# EAGLE library part LT1013 (library Eagle3D-IC_OpAmp)
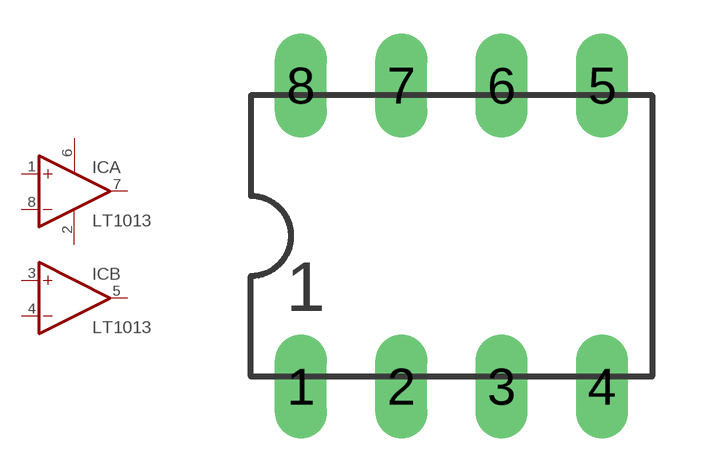
[diagram p2: symbol with the pads of DIL08; footprint DIL08]

Designator prefix IC; gates A=OP-AMP B=OP-AMP P=IC_POWER_PINS

## LT1013-P  [DIL08]
1  A:+IN  in
2  P:V-  pwr
3  B:+IN  in
4  B:-IN  in
5  B:OUT  out
6  P:V+  pwr
7  A:OUT  out
8  A:-IN  in

## LT1013-N  [DIL08]
1  A:OUT  out
2  A:-IN  in
3  A:+IN  in
4  P:V-  pwr
5  B:+IN  in
6  B:-IN  in
7  B:OUT  out
8  P:V+  pwr

## Footprint DIL08 (pad centres in mm)
drill 0.813 pad 1.27 long: 1 -3.81,-3.81; 2 -1.27,-3.81; 3 1.27,-3.81; 4 3.81,-3.81; 5 3.81,3.81; 6 1.27,3.81; 7 -1.27,3.81; 8 -3.81,3.81